# EAGLE library part LPC11C24 (library nxp)
32-bit ARM Cortex-M0 microcontroller; 16/32 kB flash, 8 kB SRAM; C_CAN The LPC11Cx2/Cx4 are an ARM Cortex-M0 based, low-cost 32-bit MCU family, designed for 8/16-bit microcontroller applications, offering performance, low power, simple instruction set and memory addressing together with reduced code size compared to existing 8/16-bit architectures. The LPC11Cx2/Cx4 operate at CPU frequencies of up to 50 MHz. The peripheral complement of the LPC11Cx2/Cx4 includes 16/32 kB of flash memory, 8 kB of data memory, one C_CAN controller, one Fast-mode Plus I2C-bus interface, one RS-485/EIA-485 UART, two SPI interfaces with SSP features, four general purpose counter/timers, a 10-bit ADC, and up to 40 general purpose I/O pins. On-chip C_CAN drivers and flash In-System Programming tools via C_CAN are included. In addition, the LPC11C22 and LPC11C24 parts include an on-chip, high-speed CAN transceiver.
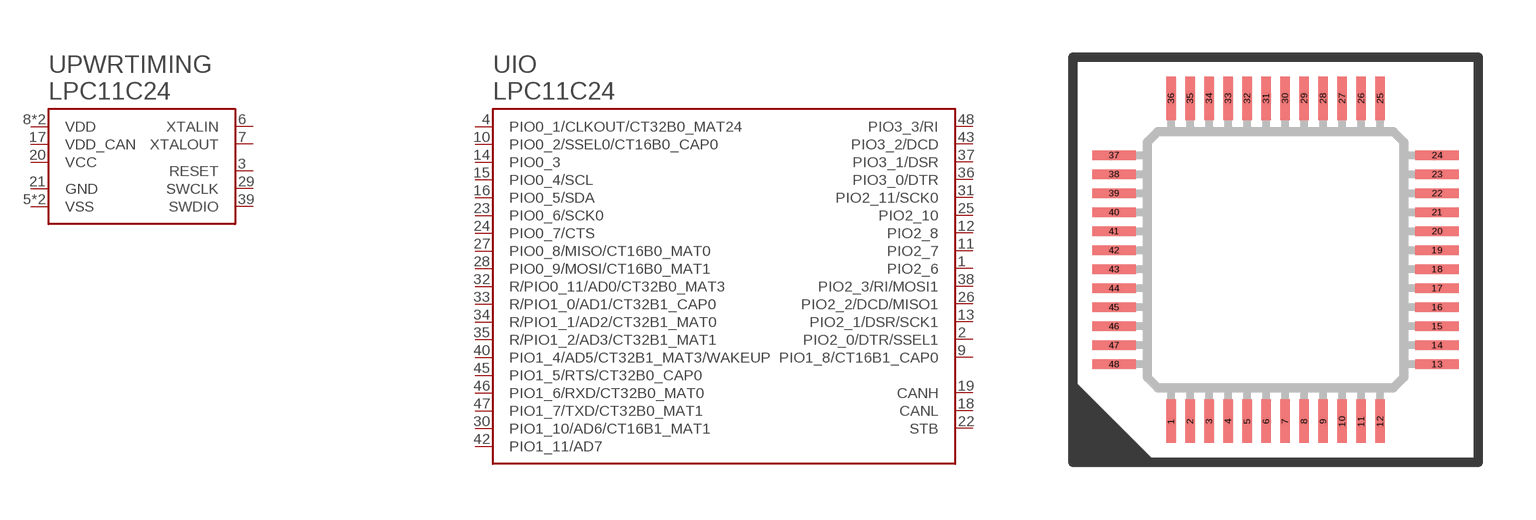
[diagram p2: symbol with the pads of LQFP-48; footprint LQFP-48]

Designator prefix U; gates PWRTIMING=LPC11C24-PWRTIMING IO=LPC11C24-IO

## LPC11C24  [LQFP-48]
1  IO:PIO2_6
2  IO:PIO2_0/DTR/SSEL1
3  PWRTIMING:RESET
4  IO:PIO0_1/CLKOUT/CT32B0_MAT24
5  PWRTIMING:VSS
6  PWRTIMING:XTALIN
7  PWRTIMING:XTALOUT
8  PWRTIMING:VDD
9  IO:PIO1_8/CT16B1_CAP0
10  IO:PIO0_2/SSEL0/CT16B0_CAP0
11  IO:PIO2_7
12  IO:PIO2_8
13  IO:PIO2_1/DSR/SCK1
14  IO:PIO0_3
15  IO:PIO0_4/SCL
16  IO:PIO0_5/SDA
17  PWRTIMING:VDD_CAN
18  IO:CANL
19  IO:CANH
20  PWRTIMING:VCC
21  PWRTIMING:GND
22  IO:STB
23  IO:PIO0_6/SCK0
24  IO:PIO0_7/CTS
25  IO:PIO2_10
26  IO:PIO2_2/DCD/MISO1
27  IO:PIO0_8/MISO/CT16B0_MAT0
28  IO:PIO0_9/MOSI/CT16B0_MAT1
29  PWRTIMING:SWCLK
30  IO:PIO1_10/AD6/CT16B1_MAT1
31  IO:PIO2_11/SCK0
32  IO:R/PIO0_11/AD0/CT32B0_MAT3
33  IO:R/PIO1_0/AD1/CT32B1_CAP0
34  IO:R/PIO1_1/AD2/CT32B1_MAT0
35  IO:R/PIO1_2/AD3/CT32B1_MAT1
36  IO:PIO3_0/DTR
37  IO:PIO3_1/DSR
38  IO:PIO2_3/RI/MOSI1
39  PWRTIMING:SWDIO
40  IO:PIO1_4/AD5/CT32B1_MAT3/WAKEUP
41  PWRTIMING:VSS
42  IO:PIO1_11/AD7
43  IO:PIO3_2/DCD
44  PWRTIMING:VDD
45  IO:PIO1_5/RTS/CT32B0_CAP0
46  IO:PIO1_6/RXD/CT32B0_MAT0
47  IO:PIO1_7/TXD/CT32B0_MAT1
48  IO:PIO3_3/RI

## Footprint LQFP-48 (pad centres in mm)
smd 0.254 x 1.143: 1 -2.75,-4.25; 2 -2.25,-4.25; 3 -1.75,-4.25; 4 -1.25,-4.25; 5 -0.75,-4.25; 6 -0.25,-4.25; 7 0.25,-4.25; 8 0.75,-4.25; 9 1.25,-4.25; 10 1.75,-4.25; 11 2.25,-4.25; 12 2.75,-4.25; 25 2.75,4.25; 26 2.25,4.25; 27 1.75,4.25; 28 1.25,4.25; 29 0.75,4.25; 30 0.25,4.25; 31 -0.25,4.25; 32 -0.75,4.25; 33 -1.25,4.25; 34 -1.75,4.25; 35 -2.25,4.25; 36 -2.75,4.25
smd 1.143 x 0.254: 13 4.25,-2.75; 14 4.25,-2.25; 15 4.25,-1.75; 16 4.25,-1.25; 17 4.25,-0.75; 18 4.25,-0.25; 19 4.25,0.25; 20 4.25,0.75; 21 4.25,1.25; 22 4.25,1.75; 23 4.25,2.25; 24 4.25,2.75; 37 -4.25,2.75; 38 -4.25,2.25; 39 -4.25,1.75; 40 -4.25,1.25; 41 -4.25,0.75; 42 -4.25,0.25; 43 -4.25,-0.25; 44 -4.25,-0.75; 45 -4.25,-1.25; 46 -4.25,-1.75; 47 -4.25,-2.25; 48 -4.25,-2.75